# Altium schematic symbol library T55D107M025C0060.SchLib: 1 symbol
Pins are listed as number, name and electrical type; pins without a type are passive.

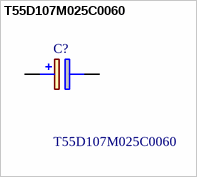
[diagram p0: symbol T55D107M025C0060]

## T55D107M025C0060
designator C?
Tantalum Capacitors - Polymer 100uF 25volts 20% D Case 60 Max.ESR; Manufacturer_Name: Vishay; Geometry.Height: 3.1mm; Manufacturer_Part_Number: T55D107M025C0060; Mouser Part Number: 74-T55D107M025C0060; Mouser Price/Stock: https://www.mouser.co.uk/ProductDetail/Vishay-Sprague/T55D107M025C0060?qs=iR2ablhfrmEk%252B%2Fi%2Ffn01KQ%3D%3D; Arrow Part Number: *; Arrow Price/Stock: *; Datasheet Link: https://www.mouser.in/datasheet/2/427/VISH_S_A0011791766_1-2571805.pdf
footprint CAPPM7343X310N
pins: 1 +, 2 -